# Altium schematic symbol library Tut3.SchLib: 2 symbols
Pins are listed as number, name and electrical type; pins without a type are passive.

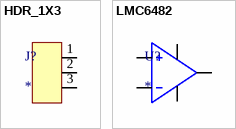
[diagram p0: symbols HDR_1X3 to LMC6482]

## HDR_1X3
designator J?
1X3 Header Connector
pins: 1, 2, 3

## LMC6482
designator U?
CMOS Amplifier 2 Circuit Rail-to-Rail 8-SOIC
pins: 1, 2, 3, 4, 5